# Altium footprint library 器件封装.PCBLIB: 225 footprints (part 11 of 15)
Each footprint in its own frame and in the unit in brackets; x right, y up, seen from the top. Pads: shape width x height; smd on the part's side, far side on the other; paste and mask are expansions set on the pad; w line width, h text height; cw(c..) or ccw(c..) is an arc to the next point about the centre after c.
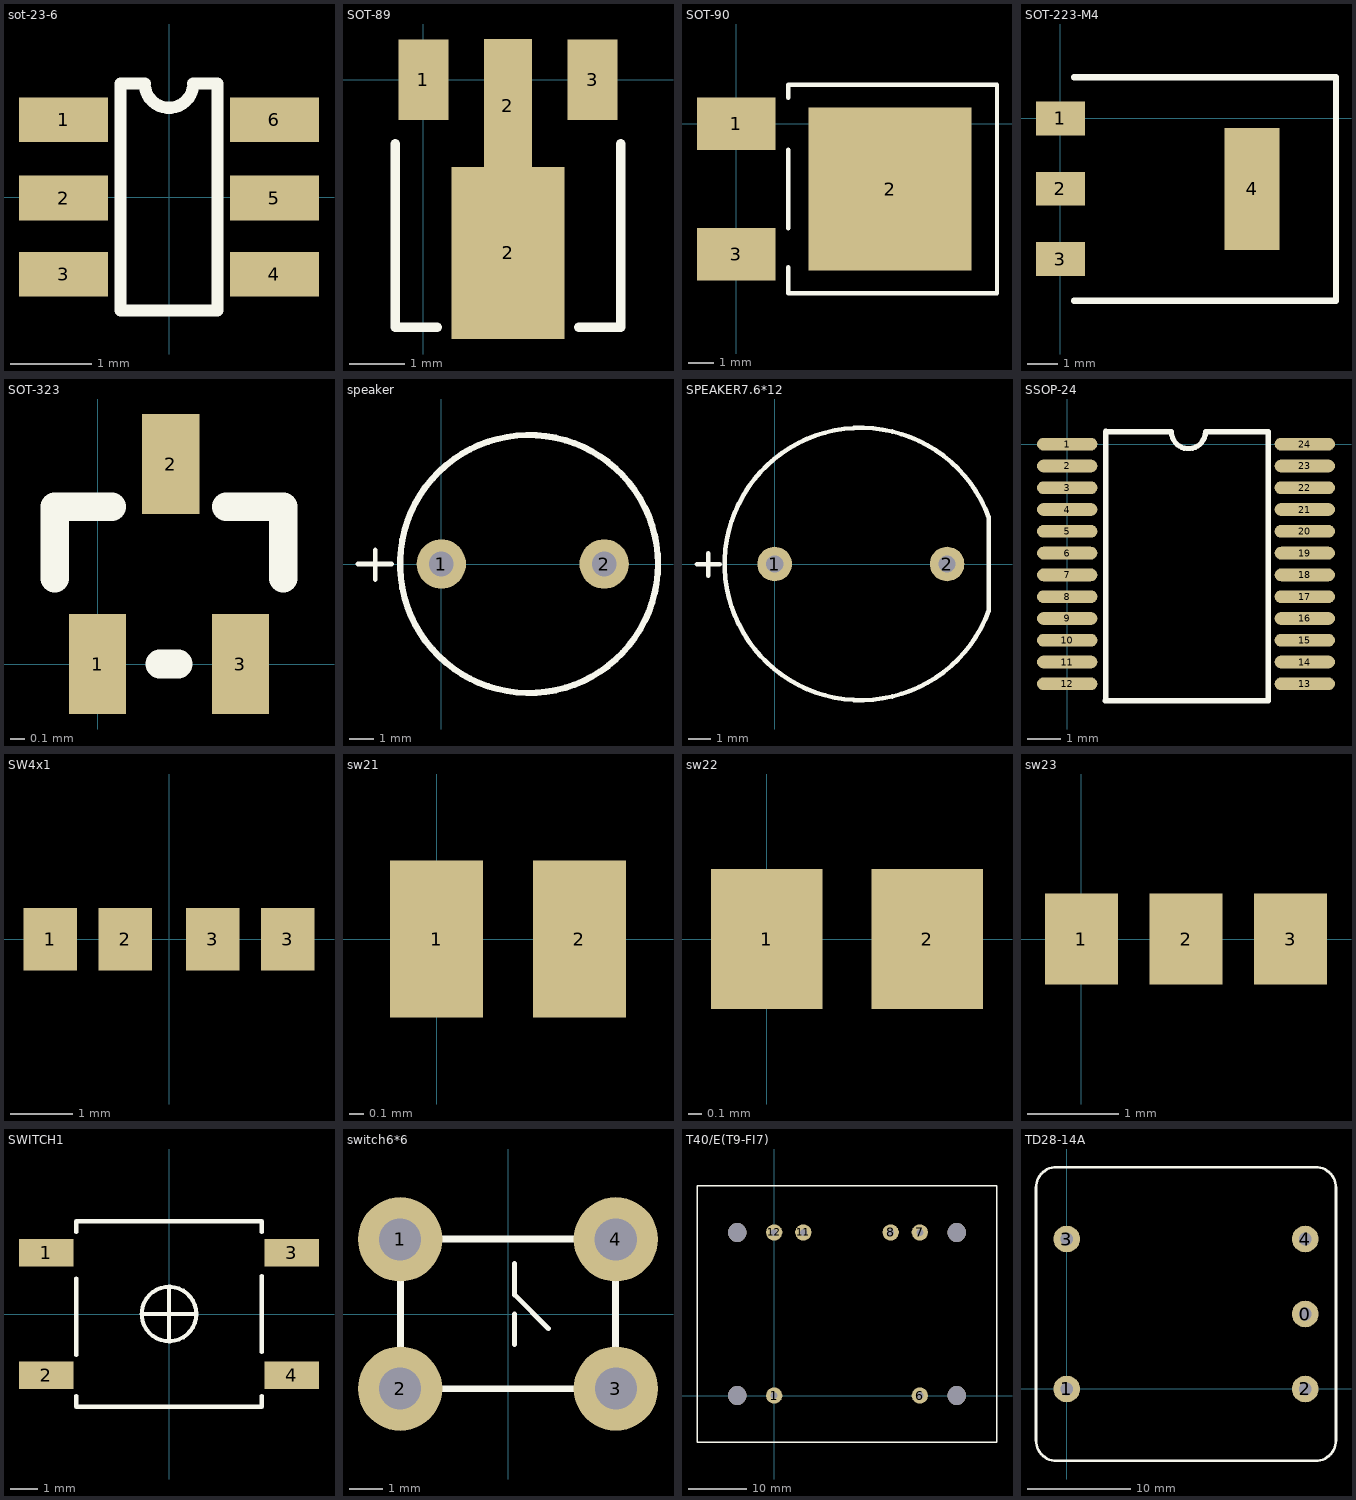
[diagram p10: the footprints below, top view; thin cyan lines are the x and y axes]

## sot-23-6 [mm]
pads (6):
  rect 1.1x0.55 smd: 1(-1.3,0.953) 2(-1.3,-0.013) 3(-1.3,-0.953) 4(1.3,-0.953) 5(1.3,-0.013) 6(1.3,0.953)
TopOverlay:
  lines w0.15: -0.6,-1.4 0.6,-1.4 0.6,1.4 0.3,1.4 cw(c0,1.4) -0.3,1.4 -0.6,1.4 -0.6,-1.4

## SOT-89 [mm]
pads (4):
  rect 0.9x1.45 smd: 1(0,0) 3(3.048,0)
  rect 0.864x2.4 smd: 2(1.524,-0.47)
  rect 2.032x3.1 smd: 2(1.524,-3.12)
TopOverlay:
  lines w0.17: -0.508,-1.156 -0.508,-4.458 0.254,-4.458 ; 2.794,-4.458 3.556,-4.458 3.556,-1.156

## SOT-90 [mil]
pads (3):
  rect 120x80 smd: 1(0,0) 3(0,-200)
  rect 250x250 smd: 2(236.22,-100)
TopOverlay:
  lines w6.69: 80,-220 80,-260 400,-260 400,60 80,60 80,40 ; 80,-160 80,-40

## SOT-223-M4 [mm]
pads (4):
  rect 1.6x1.1 smd: 1(0,0) 2(0,-2.3) 3(0,-4.6)
  rect 1.8x4 smd: 4(6.275,-2.306)
TopOverlay:
  lines w0.203: 0.445,-5.966 9.017,-5.966 9.017,1.351 0.445,1.351

## SOT-323 [mm]
pads (3):
  rect 0.4x0.7 smd: 1(0,0) 2(0.513,1.4) 3(1,0)
TopOverlay:
  lines w0.2: -0.3,0.6 -0.3,1.1 0.1,1.1 ; 0.437,0 0.564,0 ; 0.9,1.1 1.3,1.1 1.3,0.6

## speaker [mm]
pads (2):
  round 2 hole 1: 1(0,0) 2(6.604,0)
TopOverlay:
  circle w0.254: c3.556,0 r5.23
  lines w0.2: -3.38,0 -2.01,0 ; -2.68,-0.63 -2.68,0.57

## SPEAKER7.6*12 [mil]
pads (2):
  round 60 hole 30: 1(0,0) 2(299.21,0)
TopOverlay:
  lines w7.87: -134.65,-0.79 -95.28,-0.79 ; -114.96,-20.47 -114.96,18.9 ; 371.26,-81.1 371.26,81.1 ; 371.58,-80.79 cw(c149.61,0) 371.58,80.79

## SSOP-24 [mm]
pads (24):
  oval 1.8x0.38 smd: 1(0,0) 2(0,-0.65) 3(0,-1.3) 4(0,-1.95) 5(0,-2.6) 6(0,-3.25) 7(0,-3.9) 8(0,-4.55) 9(0,-5.2) 10(0,-5.85) 11(0,-6.5) 12(0,-7.15) 13(7.09,-7.15) 14(7.09,-6.5) 15(7.09,-5.85) 16(7.09,-5.2) 17(7.09,-4.55) 18(7.09,-3.9) 19(7.09,-3.25) 20(7.09,-2.6) 21(7.09,-1.95) 22(7.09,-1.3) 23(7.09,-0.65) 24(7.09,0)
TopOverlay:
  lines w0.154: 3.11,0.373 ccw(c3.618,0.373) 4.126,0.373
  lines w0.17: 1.14,-7.657 6,-7.657 ; 1.15,-7.64 1.15,0.38 ; 1.17,0.373 3.044,0.373 ; 4.17,0.373 6,0.373 6,-7.64

## SW4x1 [mm]
pads (4):
  rect 0.85x1 smd: 1(-1.9,0) 2(-0.7,0) 3(0.7,0) 3(1.9,0)

## sw21 [mm]
pads (2):
  rect 0.65x1.1 smd: 1(0,0) 2(1,0)

## sw22 [mm]
pads (2):
  rect 0.8x1 smd: 1(0,0) 2(1.15,0)

## sw23 [mm]
pads (3):
  rect 0.8x1 smd: 1(0,0) 2(1.15,0) 3(2.3,0)

## SWITCH1 [mm]
pads (4):
  rect 2x1 smd: 1(-4.5,2.25) 2(-4.5,-2.25) 3(4.5,2.25) 4(4.5,-2.25)
TopOverlay:
  circle w0.15: c0,0 r1
  lines w0.15: -3.4,-3 -3.4,-3.4 3.4,-3.4 3.4,-3 ; -3.4,-1.5 -3.4,1.3 ; -3.4,3 -3.4,3.4 3.4,3.4 3.4,3 ; -1,0 1,0 ; 0,-1 0,1 ; 3.4,-1.4 3.4,1.4

## switch6*6 [mm]
pads (4):
  round 2.54 hole 1.27: 1(-3.251,2.25) 2(-3.251,-2.25) 3(3.251,-2.248) 4(3.249,2.25)
TopOverlay:
  lines w0.15: 0.201,-0.919 0.201,-0.004 ; 0.201,1.52 0.201,0.58 1.217,-0.436
  lines w0.2: -3.239,-1.098 -3.239,1.082 ; -2.049,-2.258 1.991,-2.258 ; -2.049,2.262 1.951,2.262 ; 3.241,-1.048 3.241,1.072

## T40/E(T9-FI7) [mm]
pads (6):
  round 2.8 hole 1.2: 1(0,0) 6(25,0) 7(25,28) 8(20,28) 11(5,28) 12(0,28)
via 31.35,0 diameter 3.2 hole 3.2
via -6.35,0 diameter 3.2 hole 3.2
via 31.35,28 diameter 3.2 hole 3.2
via -6.35,28 diameter 3.2 hole 3.2
TopOverlay:
  lines w0.254: -13.25,-8 38.25,-8 38.25,36 -13.25,36 -13.25,-8

## TD28-14A [mm]
pads (5):
  round 2.6 hole 1.25: 0(23.2,7.3) 1(0,0) 2(23.2,0) 3(0,14.6) 4(23.2,14.6)
TopOverlay:
  lines w0.254: -3,-5 ccw(c-1,-5) -1,-7 24.2,-7 ccw(c24.2,-5) 26.2,-5 26.2,19.6 ccw(c24.2,19.6) 24.2,21.6 -1,21.6 ccw(c-1,19.6) -3,19.6 -3,-5